# EAGLE library part MICROBUILDER_MOSFET-N_DUAL (library Adafruit BMP390)
Dual N-Channel MOSFET SOT363 (2.0x1.25mm) 2N7002PS - 60V, 320mA [Digikey: 568-5984-1-ND]
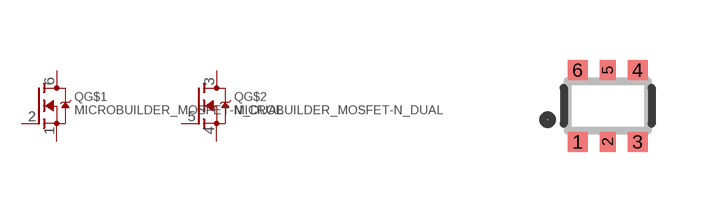
[diagram p2: symbol with the pads of MICROBUILDER_SOT363; footprint MICROBUILDER_SOT363]

Designator prefix Q; gates G$1=MICROBUILDER_MOSFET-N G$2=MICROBUILDER_MOSFET-N

## MICROBUILDER_MOSFET-N_DUAL  [MICROBUILDER_SOT363]
1  G$1:S
2  G$1:G
3  G$2:D
4  G$2:S
5  G$2:G
6  G$1:D

## Footprint MICROBUILDER_SOT363 (pad centres in mm)
Source: http://www.nxp.com/documents/data_sheet/2N7002PS.pdf
smd 0.5 x 0.5: 1 -0.75,-0.9; 3 0.75,-0.9; 4 0.75,0.9; 6 -0.75,0.9
smd 0.4 x 0.5: 2 0,-0.9; 5 0,0.9